# EAGLE library part 613015143121 (library Board_to_Board_Connectors_rev15d)
WR-PHD 2.54mm Angeld Socket Header, 15 Pins=>Code : Con_BTB_SHD_2.54_1_THT_613015143121 <http://katalog.we-online.de/media/images/eican/Con_BTB_SHD_2.54_1_THT_6130xx143121_pf2.jpg> Details see: http://katalog.we-online.de/en/em/613_0xx_143_121 Created 2014-05-29, Karrer Zheng 2014 (C) Würth Elektronik
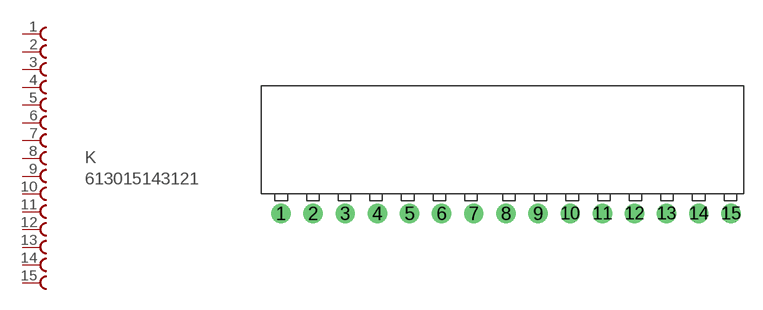
[diagram p138: symbol with the pads of 613015143121; footprint 613015143121]

Designator prefix K

## 613015143121  [613015143121]
1  1  pas
2  2  pas
3  3  pas
4  4  pas
5  5  pas
6  6  pas
7  7  pas
8  8  pas
9  9  pas
10  10  pas
11  11  pas
12  12  pas
13  13  pas
14  14  pas
15  15  pas

## Footprint 613015143121 (pad centres in mm)
WR-PHD 2.54mm Angled Socket Header, 15 Pins
drill 1.02: 1 -33.02,0; 2 -30.48,0; 3 -27.94,0; 4 -25.4,0; 5 -22.86,0; 6 -20.32,0; 7 -17.78,0; 8 -15.24,0; 9 -12.7,0; 10 -10.16,0; 11 -7.62,0; 12 -5.08,0; 13 -2.54,0; 14 0,0; 15 2.54,0